# Altium schematic symbol library Watertron_BFC_470u.Schlib: 1 symbol
Pins are listed as number, name and electrical type; pins without a type are passive.

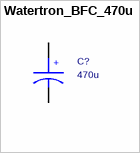
[diagram p0: symbol Watertron_BFC_470u]

## Watertron_BFC_470u
designator C?, comment 470u
pins: 1, 2
text: +